# EAGLE library part NPPN121BFCN-RC (library KVB-connectors)
12 Position Header Connector 0.079" (2.00mm) Through Hole Gold
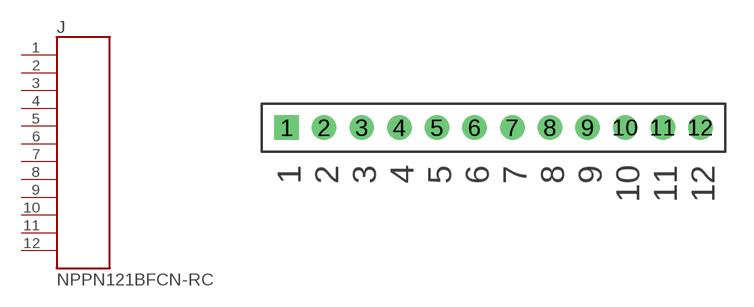
[diagram p14: symbol with the pads of NPPN121BFCN-RC; footprint NPPN121BFCN-RC]

Designator prefix J

## NPPN121BFCN-RC (MAN-PART_NUM: NPPN121BFCN-RC; MANUFACTURER: Sullins Connector Solutions)  [NPPN121BFCN-RC]
1  P$1
2  P$2
3  P$3
4  P$4
5  P$5
6  P$6
7  P$7
8  P$8
9  P$9
10  P$10
11  P$11
12  P$12

## Footprint NPPN121BFCN-RC (pad centres in mm)
drill 0.787 square: 1 -11,0
drill 0.787: 2 -9,0; 3 -7,0; 4 -5,0; 5 -3,0; 6 -1,0; 7 1,0; 8 3,0; 9 5,0; 10 7,0; 11 9,0; 12 11,0